# EAGLE library part LRTB_GFTG (library osram_led)
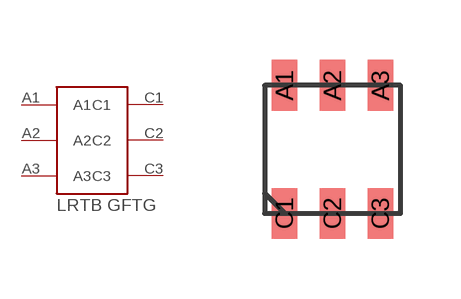
[diagram p0: symbol with the pads of LRTB_GFTG; footprint LRTB_GFTG]

Designator prefix -

## LRTB_GFTG  [LRTB_GFTG]
A1  A1
A2  A2
A3  A3
C1  C1
C2  C2
C3  C3

## Footprint LRTB_GFTG (pad centres in mm)
smd 0.635 x 1.27: A1 0.5,0; A2 1.7,0; A3 2.9,0; C1 0.5,-3.2; C2 1.7,-3.2; C3 2.9,-3.2